# Altium footprint library Transistors, Diodes, etc.PcbLib: 33 footprints (part 2 of 3)
Each footprint in its own frame and in the unit in brackets; x right, y up, seen from the top. Pads: shape width x height; smd on the part's side, far side on the other; paste and mask are expansions set on the pad; w line width, h text height; cw(c..) or ccw(c..) is an arc to the next point about the centre after c.
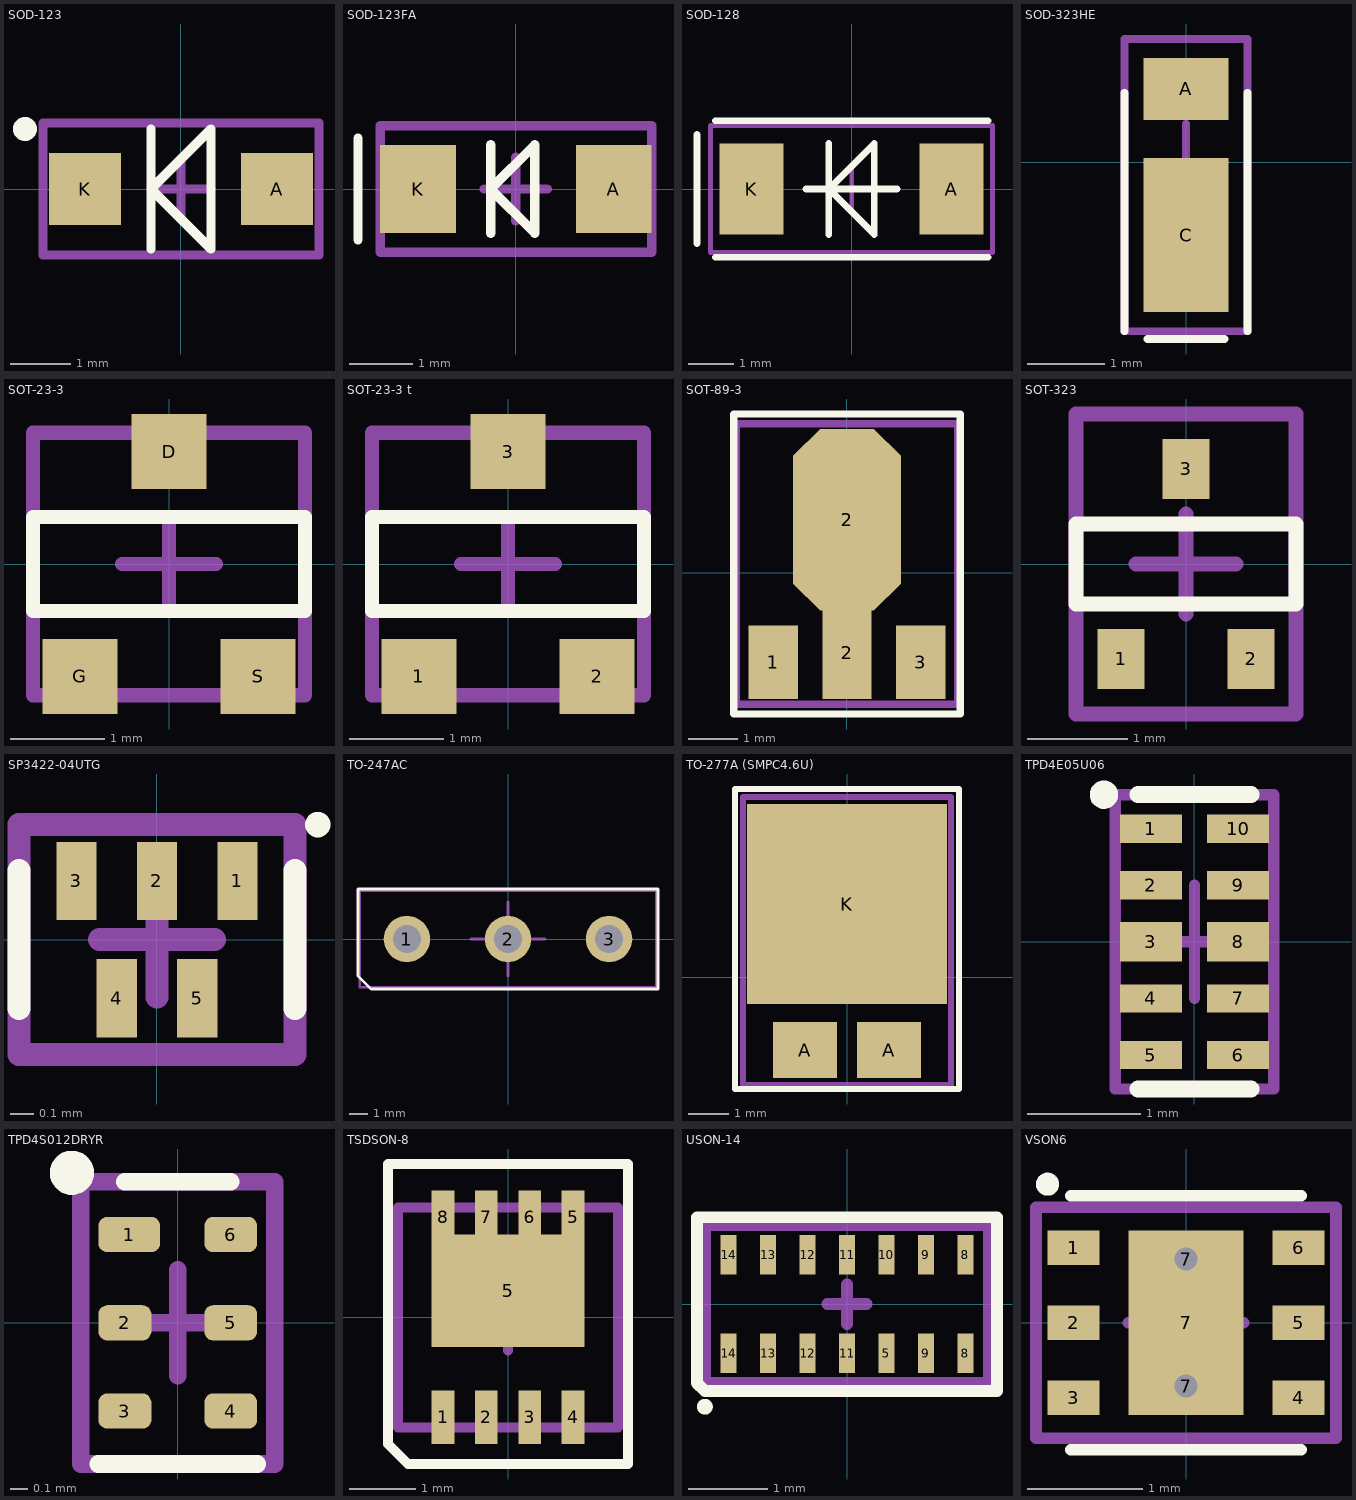
[diagram p1: the footprints below, top view; thin cyan lines are the x and y axes]

## SOD-123 [mm]
pads (2):
  rect 1.2x1.2 smd: A(1.6,0) K(-1.6,0)
Top Overlay:
  circle w0.2: c-2.6,1 r0.1
  lines w0.15: -0.5,-1 -0.5,1 ; -0.5,0 0.5,-1 0.5,1 -0.5,0
Mechanical 13:
  lines w0.15: -0.5,0 0.5,0 ; 0,-0.5 0,0.5 ; -2.3,-1.1 2.3,-1.1 2.3,1.1 -2.3,1.1 -2.3,-1.1
3D body "User Library-SOD123-1.step": height 1.18, standoff 0, extent -1.95,-0.9 1.95,0.9

## SOD-123FA [mm]
pads (2):
  rect 1.2x1.4 smd: A(1.55,0) K(-1.55,0)
Top Overlay:
  lines w0.15: -2.5,-0.8 -2.5,0.8 ; -0.4,-0.7 -0.4,0.7 ; -0.4,0 0.3,0.7 0.3,-0.7 -0.4,0
Mechanical 13:
  lines w0.15: -0.5,0 0.5,0 ; 0,-0.5 0,0.5 ; -2.15,-1 -2.15,1 2.15,1 2.15,-1 -2.15,-1
3D body "User Library-SOD-123F.step": height 1.02, standoff 0, extent -1.9,-0.9 1.9,0.9

## SOD-128 [mm]
pads (2):
  rect 1.4x2 smd: A(2.2,0) K(-2.2,0)
Top Overlay:
  lines w0.15: -3.4,-1.2 -3.4,1.2 ; -3,-1.5 3,-1.5 ; -3,1.5 3,1.5 ; -1,0 1,0 ; -0.5,-1 -0.5,1 ; -0.5,0 0.5,-1 0.5,1 -0.5,0
Mechanical 13:
  lines w0.1: -0.5,0 0.5,0 ; 0,-0.5 0,0.5
  lines w0.11: -3.1,-1.4 3.1,-1.4 3.1,1.4 -3.1,1.4 -3.1,-1.4
3D body "User Library-SOD-128Flat.step": height 1.02, standoff 0, extent -2.4,-1.25 2.4,1.25

## SOD-323HE [mm]
pads (2):
  rect 1.1x0.8 smd: A(0,0.95)
  rect 1.1x2 smd: C(0,-0.95)
Top Overlay:
  lines w0.1: -0.8,-2.2 -0.8,0.9 ; -0.5,-2.3 0.5,-2.3 ; 0.8,-2.2 0.8,0.9
Mechanical 15:
  lines w0.1: -0.5,0 0.5,0 ; 0,-0.5 0,0.5 ; -0.8,-2.2 -0.8,1.6 0.8,1.6 0.8,-2.2 -0.8,-2.2
3D body "TUMD2M.step": height 0.6, standoff 0, extent -0.7,-1.55 0.7,0.95

## SOT-23-3 [mm]
height 1.25
pads (3):
  rect 0.8x0.8 smd: D(0,1.2) G(-0.95,-1.2) S(0.95,-1.2)
Top Overlay:
  lines w0.15: -1.45,-0.5 1.45,-0.5 1.45,0.5 -1.45,0.5 -1.45,-0.5
Mechanical 13:
  lines w0.15: -0.5,0 0.5,0 ; 0,-0.5 0,0.5 ; -1.45,-1.4 1.45,-1.4 1.45,1.4 -1.45,1.4 -1.45,-1.4
3D body "CircuitWorks-SOT-23.step": height 1.1, standoff 0, extent -1.5,-1.25 1.5,1.25

## SOT-23-3 t [mm]
height 1.25
pads (3):
  rect 0.8x0.8 smd: 1(-0.95,-1.2) 2(0.95,-1.2) 3(0,1.2)
Top Overlay:
  lines w0.15: -1.45,-0.5 -1.45,0.5 1.45,0.5 1.45,-0.5 -1.45,-0.5
Mechanical 13:
  lines w0.15: -0.5,0 0.5,0 ; 0,-0.5 0,0.5 ; -1.45,-1.4 -1.45,1.4 1.45,1.4 1.45,-1.4 -1.45,-1.4
3D body "CircuitWorks-SOT-23.step": height 1.1, standoff 0, extent -1.5,-1.25 1.5,1.25

## SOT-89-3 [mm]
height 1.5
pads (4):
  rect 1x1.5 smd: 1(-1.5,-1.825) 3(1.5,-1.825)
  rect 1x1.9 smd: 2(0,-1.625)
  oct 2.2x3.7 smd paste-0.2: 2(0,1.075)
Top Overlay:
  lines w0.15: -2.3,-2.875 2.3,-2.875 2.3,3.225 -2.3,3.225 -2.3,-2.875
Mechanical 13:
  lines w0.15: -0.5,-0.375 0.5,-0.375 ; 0,-0.875 0,0.125 ; -2.25,-2.675 -2.25,3.025 2.25,3.025 2.25,-2.675 -2.25,-2.675
3D body "User Library-SOT89-3.STEP": height 1.54, standoff 0, extent -2.25,-2.125 2.25,2.125

## SOT-323 [mm]
pads (3):
  rect 0.47x0.6 smd: 1(-0.65,-0.95) 2(0.65,-0.95) 3(0,0.95)
Top Overlay:
  lines w0.15: -1.1,-0.4 1.1,-0.4 1.1,0.4 -1.1,0.4 -1.1,-0.4
Mechanical 13:
  lines w0.15: -0.5,0 0.5,0 ; 0,-0.5 0,0.5 ; -1.1,-1.5 1.1,-1.5 1.1,1.5 -1.1,1.5 -1.1,-1.5
3D body "User Library-sc70-3.step": height 1, standoff 0, extent -1.05,-1.15 1.05,1.15

## SP3422-04UTG [mm]
pads (5):
  rect 0.175x0.34 smd mask+0.05: 1(0.35,0.255) 2(0,0.255) 3(-0.35,0.255) 4(-0.175,-0.255) 5(0.175,-0.255)
Top Overlay:
  circle w0.1: c0.7,0.5 r0.005
  lines w0.1: -0.6,-0.3 -0.6,0.3 ; 0.6,-0.3 0.6,0.3
Mechanical 15:
  lines w0.1: -0.25,0 0.25,0 ; 0,-0.25 0,0.25 ; -0.6,-0.5 0.6,-0.5 0.6,0.5 -0.6,0.5 -0.6,-0.5
3D body "DFN_04UTG_LTF.step": height 0.51, standoff 0, extent -0.546,-0.356 0.546,0.356

## TO-247AC [mm]
pads (3):
  round 2.5 hole 1.5: 1(-5.46,0) 2(0,0) 3(5.46,0)
Top Overlay:
  lines w0.15: -8.1,-2 -7.4,-2.7 8.1,-2.7 8.1,2.7 -8.1,2.7 -8.1,-2
Mechanical 13:
  lines w0.15: -2,0 2,0 ; 0,-2 0,2 ; -8,-2.6 -8,2.6 8,2.6 8,-2.6 -8,-2.6
  text "G" at -7.3,-2.3 h1.5
  text "D" at -1.3,-2.3 h1.5
  text "S" at 3.9,-2.296 h1.5
3D body "User Library-to247AC.step": height 24.7, standoff -4.3, extent -7.8,-2.4 7.8,2.6

## TO-277A (SMPC4.6U) [mm]
height 1.2
pads (3):
  rect 1.6x1.4 smd: A(-1.05,-1.825) A(1.05,-1.825)
  rect 5x5 smd: K(0,1.825)
Top Overlay:
  lines w0.15: -2.8,-2.8 -2.8,4.7 2.8,4.7 2.8,-2.8 -2.8,-2.8
Mechanical 13:
  lines w0.15: -0.5,0 0.5,0 ; 0,-0.5 0,0.5 ; -2.6,-2.7 2.6,-2.7 2.6,4.5 -2.6,4.5 -2.6,-2.7
3D body "User Library-TO-277A(SMPC).STEP": height 1.2, standoff 0, extent -2.375,-2.45 2.375,4.2

## TPD4E05U06 [mm] "2.5x1x0.5 mm"
height 0.5
pads (10):
  rect 0.55x0.25 smd mask+0.05: 1(-0.385,1) 2(-0.385,0.5) 4(-0.385,-0.5) 5(-0.385,-1) 6(0.385,-1) 7(0.385,-0.5) 9(0.385,0.5) 10(0.385,1)
  rect 0.55x0.35 smd mask+0.05: 3(-0.385,0) 8(0.385,0)
Top Overlay:
  circle w0.15: c-0.8,1.3 r0.05
  lines w0.15: -0.5,-1.3 0.5,-1.3 ; -0.5,1.3 0.5,1.3
Mechanical 15:
  lines w0.1: -0.5,0 0.5,0 ; 0,-0.5 0,0.5 ; -0.7,-1.3 0.7,-1.3 0.7,1.3 -0.7,1.3 -0.7,-1.3
3D body "DQA0010A.stp": height 0.55, standoff 0, extent -0.5,-1.25 0.5,1.25

## TPD4S012DRYR [mm]
pads (6):
  rrect50% 0.35x0.2 smd mask+0.05: 1(-0.275,0.5)
  rrect50% 0.3x0.2 smd mask+0.05: 2(-0.3,0) 3(-0.3,-0.5) 4(0.3,-0.5) 5(0.3,0) 6(0.3,0.5)
Top Overlay:
  circle w0.15: c-0.6,0.85 r0.05
  lines w0.1: -0.45,-0.8 0.45,-0.8 ; -0.3,0.8 0.3,0.8
Mechanical 15:
  lines w0.1: -0.3,0 0.3,0 ; 0,-0.3 0,0.3 ; -0.55,-0.8 0.55,-0.8 0.55,0.8 -0.55,0.8 -0.55,-0.8
3D body "TPD4S012DRYR.step": height 0.6, standoff 0, extent -0.5,-0.725 0.5,0.725

## TSDSON-8 [mm]
pads (9):
  rect 0.34x0.8 smd: 1(-0.975,-1.5) 2(-0.325,-1.5) 3(0.325,-1.5) 4(0.975,-1.5) 5(0.975,1.5) 6(0.325,1.5) 7(-0.325,1.5) 8(-0.975,1.5)
  rect 2.29x1.69 smd: 5(0,0.4)
Top Overlay:
  lines w0.15: -1.8,-1.9 -1.8,2.3 1.8,2.3 1.8,-2.2 -1.5,-2.2 -1.8,-1.9
Mechanical 13:
  lines w0.15: -0.5,0 0.5,0 ; 0,-0.5 0,0.5 ; -1.65,-1.65 1.65,-1.65 1.65,1.65 -1.65,1.65 -1.65,-1.65
3D body "User Library-PG-TSDSON-8-1.STEP": height -0.4, standoff -1.51, extent -1.7,-1.7 1.7,1.7

## USON-14 [mm]
pads (14):
  rect 0.2x0.5 smd mask+0.07: 5(0.5,-0.625) 8(1.5,-0.625) 8(1.5,0.625) 9(1,-0.625) 9(1,0.625) 10(0.5,0.625) 11(0,-0.625) 11(0,0.625) 12(-0.5,-0.625) 12(-0.5,0.625) 13(-1,-0.625) 13(-1,0.625) 14(-1.5,-0.625) 14(-1.5,0.625)
Top Overlay:
  circle w0.1: c-1.8,-1.3 r0.05
  lines w0.15: -1.9,-1 -1.9,1.1 1.9,1.1 1.9,-1.1 -1.8,-1.1 -1.9,-1
Mechanical 15:
  lines w0.15: -0.25,0 0.25,0 ; 0,-0.25 0,0.25 ; -1.8,-1 1.8,-1 1.8,1 -1.8,1 -1.8,-1
3D body "User Library-USON-14_RVZ14.step": height 0.55, standoff 0, extent -1.75,-0.685 1.75,0.685

## VSON6 [mm]
pads (9):
  rect 0.45x0.3 smd mask+0.05: 1(-0.975,0.65) 2(-0.975,0) 3(-0.975,-0.65) 4(0.975,-0.65) 5(0.975,0) 6(0.975,0.65)
  round 0.4 hole 0.2 unplated mask+0.05: 7(0,-0.55) 7(0,0.55)
  rect 1x1.6 smd mask+0.05: 7(0,0)
Top Overlay:
  circle w0.1: c-1.2,1.2 r0.05
  lines w0.1: -1,-1.1 1,-1.1 ; -1,1.1 1,1.1
Mechanical 15:
  lines w0.1: -0.5,0 0.5,0 ; 0,-0.5 0,0.5 ; -1.3,-1 1.3,-1 1.3,1 -1.3,1 -1.3,-1
3D body "User Library-QFN6.step": height 0.75, standoff 0, extent -1.001,-1 1.001,1